# Altium footprint library SamacSys.PcbLib: 19 footprints (part 2 of 2)
Each footprint in its own frame and in the unit in brackets; x right, y up, seen from the top. Pads: shape width x height; smd on the part's side, far side on the other; paste and mask are expansions set on the pad; w line width, h text height; cw(c..) or ccw(c..) is an arc to the next point about the centre after c.
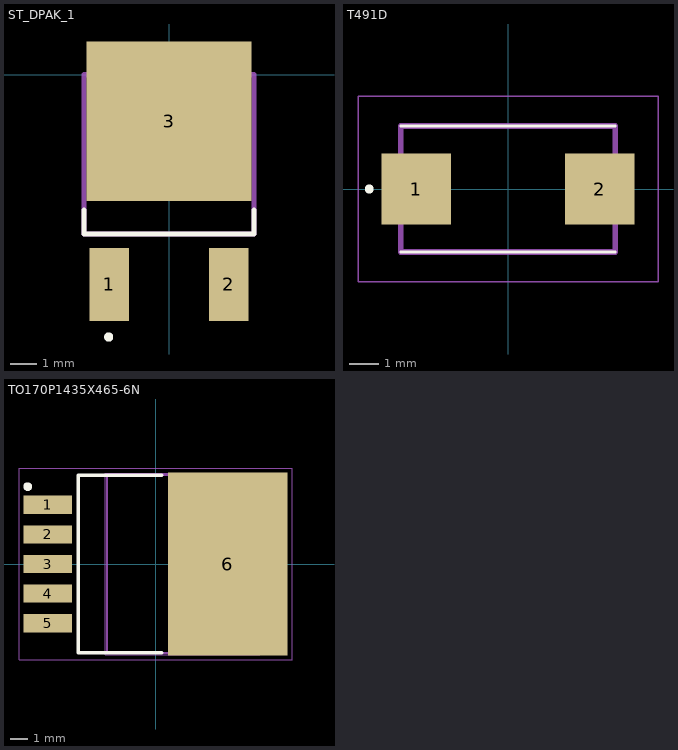
[diagram p1: the footprints below, top view; thin cyan lines are the x and y axes]

## ST_DPAK_1 [mm]
pads (3):
  rect 1.5x2.8 smd: 1(-2.286,-8.03) 2(2.286,-8.03)
  rect 6.3x6.1 smd: 3(0,-1.78)
Top Overlay:
  circle w0.2: c-2.31,-10.043 r0.075
  lines w0.2: -3.25,-5.177 -3.25,-6.1 3.25,-6.1 3.25,-5.177
Mechanical 13:
  lines w0.2: -3.25,-6.1 -3.25,0 3.25,0 3.25,-6.1 -3.25,-6.1
3D body "LD29150DT33R.stp": height 2.3, standoff -0.03, extent -3.25,-8.616 3.25,0.796

## T491D [mm]
pads (2):
  rect 2.37x2.43 smd: 1(-3.12,0) 2(3.12,0)
Top Overlay:
  circle w0.2: c-4.72,0 r0.05
  lines w0.1: -3.65,-2.15 3.65,-2.15 ; -3.65,2.15 3.65,2.15
Mechanical 13:
  lines w0.2: -3.65,-2.15 3.65,-2.15 3.65,2.15 -3.65,2.15 -3.65,-2.15
Mechanical 15:
  lines w0.05: -5.105,-3.15 5.105,-3.15 5.105,3.15 -5.105,3.15 -5.105,-3.15
3D body "T491D337K006AT.stp": height 3.11, standoff 0, extent -3.8,-2.3 3.8,2.3

## TO170P1435X465-6N [mm]
pads (6):
  rect 2.8x1.05 smd: 1(-6.2,3.4) 2(-6.2,1.7) 3(-6.2,0) 4(-6.2,-1.7) 5(-6.2,-3.4)
  rect 6.85x10.5 smd: 6(4.15,0)
Top Overlay:
  circle w0.25: c-7.35,4.45 r0.125
  lines w0.2: 0.35,-5.1 -4.45,-5.1 -4.45,5.1 0.35,5.1
Mechanical 13:
  lines w0.1: 5.905,-5.112 -2.785,-5.112 -2.785,5.112 5.905,5.112 ; 5.905,-5.112 5.905,5.112 ; 5.905,-5.112 6.324,-5.112 7.175,-4.17 7.175,4.17 6.324,5.112 5.905,5.112
Mechanical 15:
  lines w0.001: -2.885,-5.205 6.005,-5.205 6.005,5.205 -2.885,5.205 -2.885,-5.205
  lines w0.05: -7.85,-5.5 7.85,-5.5 7.85,5.5 -7.85,5.5 -7.85,-5.5
3D body "LM2575HVS-5.0_NOPB.stp": height 4.72, standoff 0, extent -7.16,-5.08 7.14,5.08